# Altium schematic symbol library EFM8LB12F64E_QFN32.SchLib: 1 symbol
Pins are listed as number, name and electrical type; pins without a type are passive.

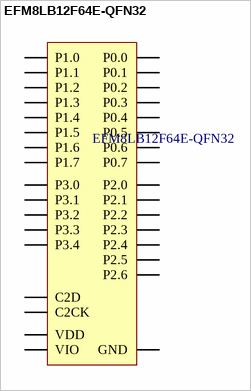
[diagram p0: symbol EFM8LB12F64E-QFN32]

## EFM8LB12F64E-QFN32
designator EFM8LB12F64E-QFN32  (value not drawn)
footprint EFM8LB12F64E_QFN32 (8051 8-bit Microcontroller from Silicon Labs)
pins: C2CK, C2D, GND, P0.0, P0.1, P0.2, P0.3, P0.4, P0.5, P0.6, P0.7, P1.0, P1.1, P1.2, P1.3, P1.4, P1.5, P1.6, P1.7, P2.0, P2.1, P2.2, P2.3, P2.4, P2.5, P2.6, P3.0, P3.1, P3.2, P3.3, P3.4, VDD, VIO